# EAGLE library part XF2M20151AR100 (library edrtech_lib)
OMRON ELECTRONIC COMPONENTS - XF2M20151AR100 - CONNECTOR, FPC, 0.5MM, 20WAY Source: Datasheet <http://www.farnell.com/datasheets/1465437.pdf>
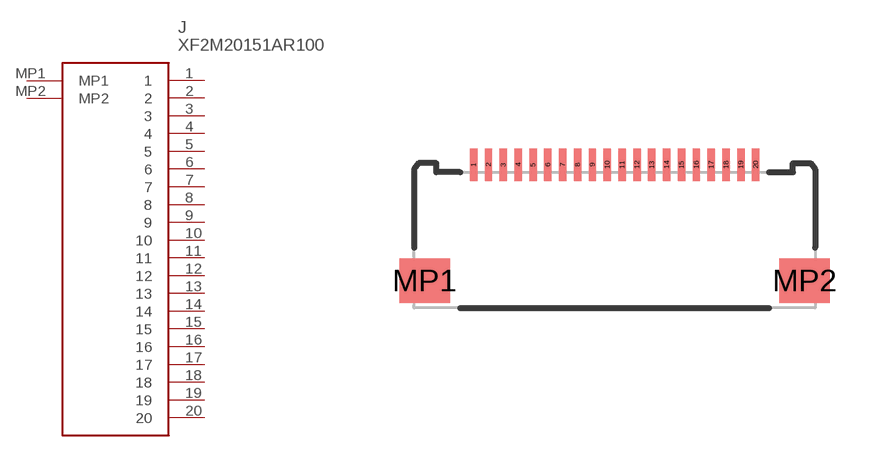
[diagram p33: symbol with the pads of XF2M20151AR100; footprint XF2M20151AR100]

Designator prefix J

## XF2M20151AR100 (ARROW_PART_NUMBER: XF2M20151AR100; ARROW_PRICE-STOCK: https://www.arrow.com/en/products/xf2m-2015-1a-r100/omron; DESCRIPTION: OMRON ELECTRONIC COMPONENTS - XF2M20151AR100 - CONNECTOR, FPC, 0.5MM, 20WAY; HEIGHT: 3.1mm; MANUFACTURER_NAME: Omron Electronics; MANUFACTURER_PART_NUMBER: XF2M20151AR100)  [XF2M20151AR100]
1  1
2  2
3  3
4  4
5  5
6  6
7  7
8  8
9  9
10  10
11  11
12  12
13  13
14  14
15  15
16  16
17  17
18  18
19  19
20  20
MP1  MP1
MP2  MP2

## Footprint XF2M20151AR100 (pad centres in mm)
XF2M20151AR100-1
smd 0.25 x 1.1: 1 -4.75,2.39; 2 -4.25,2.39; 3 -3.75,2.39; 4 -3.25,2.39; 5 -2.75,2.39; 6 -2.25,2.39; 7 -1.75,2.39; 8 -1.25,2.39; 9 -0.75,2.39; 10 -0.25,2.39; 11 0.25,2.39; 12 0.75,2.39; 13 1.25,2.39; 14 1.75,2.39; 15 2.25,2.39; 16 2.75,2.39; 17 3.25,2.39; 18 3.75,2.39; 19 4.25,2.39; 20 4.75,2.39
smd 1.7 x 1.5: MP1 -6.4,-1.51; MP2 6.4,-1.51